# EAGLE library part ONION_2S (library NCD_Onion_2S)
NCD.IO Onion.IO
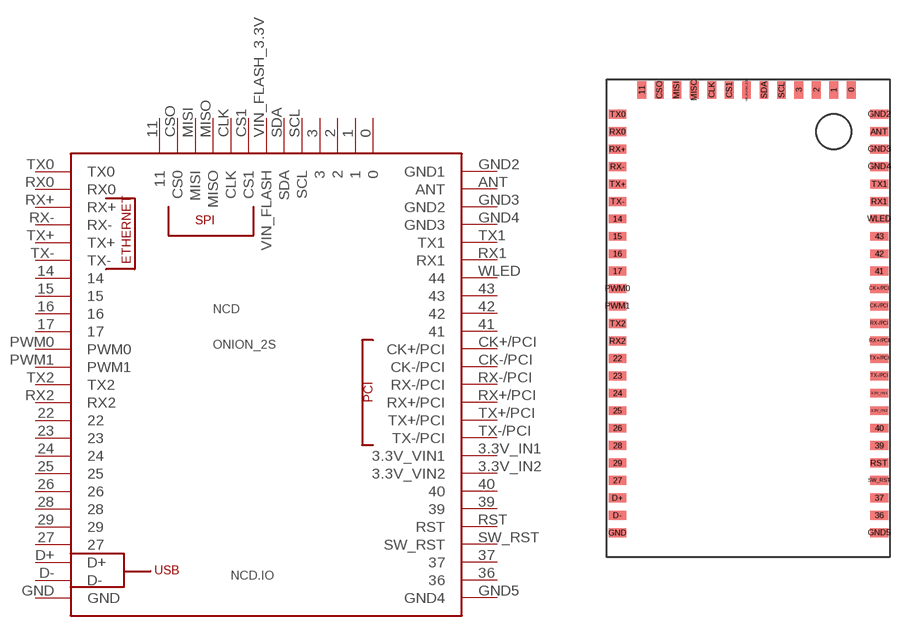
[diagram p0: symbol with the pads of ONION_2S; footprint ONION_2S]

Designator prefix NCD

## ONION_2S  [ONION_2S]
0  0
1  1
2  2
3  3
3.3V_IN1  3.3V_VIN1
3.3V_IN2  3.3V_VIN2
11  11
14  14
15  15
16  16
17  17
22  22
23  23
24  24
25  25
26  26
27  27
28  28
29  29
36  36
37  37
39  39
40  40
41  41
42  42
43  43
ANT  ANT
CK+/PCI  CK+/PCI
CK-/PCI  CK-/PCI
CLK  CLK
CS1  CS1
CSO  CS0
D+  D+
D-  D-
GND  GND
GND2  GND1
GND3  GND2
GND4  GND3
GND5  GND4
MISI  MISI
MISO  MISO
PWM0  PWM0
PWM1  PWM1
RST  RST
RX0  RX0
RX1  RX1
RX2  RX2
RX+  RX+
RX+/PCI  RX+/PCI
RX-  RX-
RX-/PCI  RX-/PCI
SCL  SCL
SDA  SDA
SW_RST  SW_RST
TX0  TX0
TX1  TX1
TX2  TX2
TX+  TX+
TX+/PCI  TX+/PCI
TX-  TX-
TX-/PCI  TX-/PCI
VIN_FLASH_3.3V  VIN_FLASH
WLED  44

## Footprint ONION_2S (pad centres in mm)
smd 0.635 x 1.27: 0 7.48,15.62; 1 6.23,15.62; 2 4.98,15.62; 3 3.73,15.62; 11 -7.52,15.62; CLK -2.52,15.62; CS1 -1.27,15.62; CSO -6.27,15.62; MISI -5.02,15.62; MISO -3.77,15.62; SCL 2.48,15.62; SDA 1.23,15.62; VIN_FLASH_3.3V -0.02,15.62
smd 1.27 x 0.635: 3.3V_IN1 9.48,-6.13; 3.3V_IN2 9.48,-7.38; 14 -9.27,6.37; 15 -9.27,5.12; 16 -9.27,3.87; 17 -9.27,2.62; 22 -9.27,-3.63; 23 -9.27,-4.88; 24 -9.27,-6.13; 25 -9.27,-7.38; 26 -9.27,-8.63; 27 -9.27,-12.38; 28 -9.27,-9.88; 29 -9.27,-11.13; 36 9.48,-14.88; 37 9.48,-13.63; 39 9.48,-9.88; 40 9.48,-8.63; 41 9.48,2.62; 42 9.48,3.87; 43 9.48,5.12; ANT 9.48,12.62; CK+/PCI 9.48,1.37; CK-/PCI 9.48,0.12; D+ -9.27,-13.63; D- -9.27,-14.88; GND -9.27,-16.13; GND2 9.48,13.87; GND3 9.48,11.37; GND4 9.48,10.12; GND5 9.48,-16.13; PWM0 -9.27,1.37; PWM1 -9.27,0.12; RST 9.48,-11.13; RX0 -9.27,12.62; RX1 9.48,7.62; RX2 -9.27,-2.38; RX+ -9.27,11.37; RX+/PCI 9.48,-2.38; RX- -9.27,10.12; RX-/PCI 9.48,-1.13; SW_RST 9.48,-12.38; TX0 -9.27,13.87; TX1 9.48,8.87; TX2 -9.27,-1.13; TX+ -9.27,8.87; TX+/PCI 9.48,-3.63; TX- -9.27,7.62; TX-/PCI 9.48,-4.88; WLED 9.48,6.37